# EAGLE library part SN74AVC4T245 (library diode-20CJQ030)
Ti's SN74AVC4T245 4-bit dual supply bus transceiver with configurable voltage transsaltion and 3-state outputs Description: This 4-bit noninverting bus transceiver uses two separate configurable power-supply rails. The A port is designed to track VCCA. VCCA accepts any supply voltage from 1.2 V to 3.6 V. The B port is designed to track VCCB. VCCB accepts any supply voltage from 1.2 V to 3.6 V. The SN74AVC4T245 is optimized to operate with VCCA/VCCB set at 1.4 V to 3.6 V. It is operational with VCCA/VCCB as low as 1.2 V. This allows for universal low-voltage bidirectional translation between any of the 1.2-V, 1.5-V, 1.8-V, 2.5-V, and 3.3-V voltage nodes. The SN74AVC4T245 is designed for asynchronous communication between data buses. The device transmits data from the A bus to the B bus or from the B bus to the A bus, depending on the logic level at the direction-control (DIR) input. The output-enable (#OE) input can be used to disable the outputs so the buses are effectively isolated. The SN74AVC4T245 is designed so that the control pins (1DIR, 2DIR, #1OE, and #2OE) are supplied by VCCA. This device is fully specified for partial-power-down applications using Ioff. The Ioff circuitry disables the outputs, preventing damaging current backflow through the device when it is powered down. Features: Control Inputs VIH/VIL Levels are Referenced to VCCA Voltage Fully Configurable Dual-Rail Design Allows Each Port to Operate Over the Full 1.2-V to 3.6-V Power-Supply Range I/Os Are 4.6-V Tolerant Ioff Supports Partial-Power-Down Mode Operation Latch-Up Performance Exceeds 100 mA Per JESD 78, Class II ESD Protection Exceeds JESD 22 - 8000-V Human-Body Model (A114-A) - 150-V Machine Model (A115-A) - 1000-V Charged-Device Model (C101) Please send any comments to: messi@users.sourceforge.net
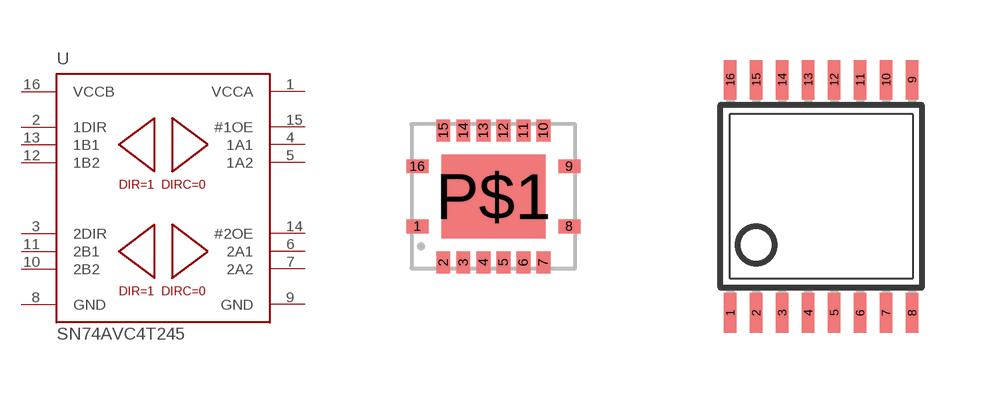
[diagram p158: symbol with the pads of QFN-16W; footprints QFN-16W, TSSOP16]

Designator prefix U

## SN74AVC4T245RGY  [QFN-16W]
1  VCCA  pwr
2  1DIR  in
3  2DIR  in
4  1A1
5  1A2
6  2A1
7  2A2
8  GND  pwr
9  GND  pwr
10  2B2
11  2B1
12  1B2
13  1B1
14  #2OE  in
15  #1OE  in
16  VCCB  pwr

## SN74AVC4T245PW  [TSSOP16]
Pads as for QFN-16W

## SN74AVC4T245DGV  [TVSOP16]
Pads as for QFN-16W

## Footprint QFN-16W (pad centres in mm)
smd 0.55 x 0.35: 1 -1.9,-0.75; 8 1.9,-0.75; 9 1.9,0.75; 16 -1.9,0.75
smd 0.35 x 0.55: 2 -1.25,-1.65; 3 -0.75,-1.65; 4 -0.25,-1.65; 5 0.25,-1.65; 6 0.75,-1.65; 7 1.25,-1.65; 10 1.25,1.65; 11 0.75,1.65; 12 0.25,1.65; 13 -0.25,1.65; 14 -0.75,1.65; 15 -1.25,1.65
smd 2.6 x 2.1: P$1 0,0

## Footprint TSSOP16 (pad centres in mm)
Thin Shrink Small Outline Plastic 16 MAX3223-MAX3243.pdf
smd 0.305 x 0.991: 1 -2.275,-2.918; 2 -1.625,-2.918; 3 -0.975,-2.918; 4 -0.325,-2.918; 5 0.325,-2.918; 6 0.975,-2.918; 7 1.625,-2.918; 8 2.275,-2.918; 9 2.275,2.918; 10 1.625,2.918; 11 0.975,2.918; 12 0.325,2.918; 13 -0.325,2.918; 14 -0.975,2.918; 15 -1.625,2.918; 16 -2.275,2.918

## Footprint TVSOP16 (pad centres in mm)
Plastic Small Outline
smd 0.28 x 1: 1 -1.4,-3.1; 2 -1,-3.1; 3 -0.6,-3.1; 4 -0.2,-3.1; 5 0.2,-3.1; 6 0.6,-3.1; 7 1,-3.1; 8 1.4,-3.1; 9 1.4,3.1; 10 1,3.1; 11 0.6,3.1; 12 0.2,3.1; 13 -0.2,3.1; 14 -0.6,3.1; 15 -1,3.1; 16 -1.4,3.1